# EAGLE library part EASYDRIVER (library arno)
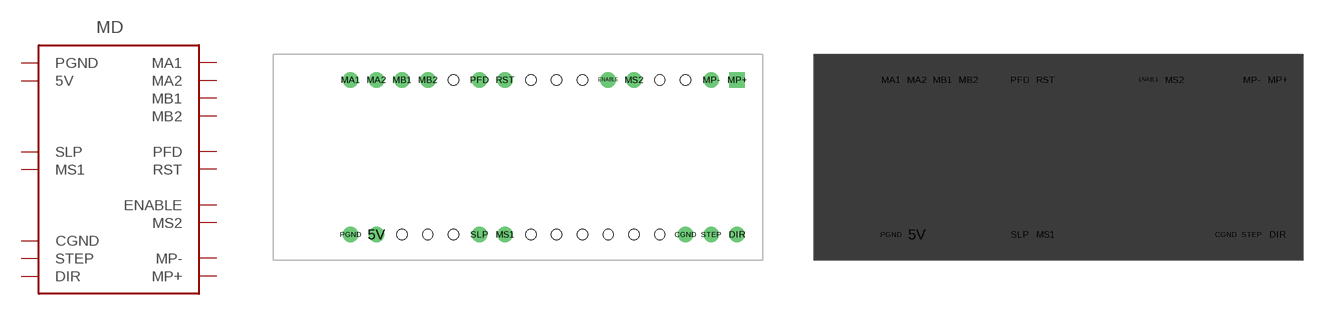
[diagram p12: symbol with the pads of EASYDRIVER-FAKE; footprints EASYDRIVER-FAKE, EASYDRIVER-FULL]

Designator prefix MD

## EASYDRIVER-FAKEHOLES  [EASYDRIVER-FAKE]
5V  5V
CGND  CGND
DIR  DIR
ENABLE  ENABLE
MA1  MA1
MA2  MA2
MB1  MB1
MB2  MB2
MP+  MP+
MP-  MP-
MS1  MS1
MS2  MS2
PFD  PFD
PGND  PGND
RST  RST
SLP  SLP
STEP  STEP

## EASYDRIVER-FULL  [EASYDRIVER-FULL]
Pads as for EASYDRIVER-FAKE

## EASYDRIVER-MINIMAL  [EASYDRIVER-MIN]
Pads as for EASYDRIVER-FAKE

## Footprint EASYDRIVER-FAKE (pad centres in mm)
drill 1.016: 5V -13.97,-7.62; CGND 16.51,-7.62; DIR 21.59,-7.62; ENABLE 8.89,7.62; MA1 -16.51,7.62; MA2 -13.97,7.62; MB1 -11.43,7.62; MB2 -8.89,7.62; MP- 19.05,7.62; MS1 -1.27,-7.62; MS2 11.43,7.62; PFD -3.81,7.62; PGND -16.51,-7.62; RST -1.27,7.62; SLP -3.81,-7.62; STEP 19.05,-7.62
drill 1.016 square: MP+ 21.59,7.62
hole 1.016 at -6.35,7.62
hole 1.016 at 1.27,7.62
hole 1.016 at 3.81,7.62
hole 1.016 at 6.35,7.62
hole 1.016 at 13.97,7.62
hole 1.016 at 16.51,7.62
hole 1.016 at -11.43,-7.62
hole 1.016 at -8.89,-7.62
hole 1.016 at -6.35,-7.62
hole 1.016 at 1.27,-7.62
hole 1.016 at 3.81,-7.62
hole 1.016 at 6.35,-7.62
hole 1.016 at 8.89,-7.62
hole 1.016 at 11.43,-7.62
hole 1.016 at 13.97,-7.62

## Footprint EASYDRIVER-FULL (pad centres in mm)
drill 1.016: 5V -13.97,-7.62; CGND 16.51,-7.62; DIR 21.59,-7.62; ENABLE 8.89,7.62; MA1 -16.51,7.62; MA2 -13.97,7.62; MB1 -11.43,7.62; MB2 -8.89,7.62; MP- 19.05,7.62; MS1 -1.27,-7.62; MS2 11.43,7.62; PFD -3.81,7.62; PGND -16.51,-7.62; RST -1.27,7.62; SLP -3.81,-7.62; STEP 19.05,-7.62
drill 1.016 square: MP+ 21.59,7.62
hole 1.016 at -6.35,7.62
hole 1.016 at 1.27,7.62
hole 1.016 at 3.81,7.62
hole 1.016 at 6.35,7.62
hole 1.016 at 13.97,7.62
hole 1.016 at 16.51,7.62
hole 1.016 at -11.43,-7.62
hole 1.016 at -8.89,-7.62
hole 1.016 at -6.35,-7.62
hole 1.016 at 1.27,-7.62
hole 1.016 at 3.81,-7.62
hole 1.016 at 6.35,-7.62
hole 1.016 at 8.89,-7.62
hole 1.016 at 11.43,-7.62
hole 1.016 at 13.97,-7.62

## Footprint EASYDRIVER-MIN (pad centres in mm)
drill 1.016: 5V -13.97,-7.62; CGND 16.51,-7.62; DIR 21.59,-7.62; ENABLE 8.89,7.62; MA1 -16.51,7.62; MA2 -13.97,7.62; MB1 -11.43,7.62; MB2 -8.89,7.62; MP- 19.05,7.62; MS1 -1.27,-7.62; MS2 11.43,7.62; PFD -3.81,7.62; PGND -16.51,-7.62; RST -1.27,7.62; SLP -3.81,-7.62; STEP 19.05,-7.62
drill 1.016 square: MP+ 21.59,7.62